# Altium footprint library BM1397_TESTBED.PcbLib: 24 footprints (part 2 of 2)
Each footprint in its own frame and in the unit in brackets; x right, y up, seen from the top. Pads: shape width x height; smd on the part's side, far side on the other; paste and mask are expansions set on the pad; w line width, h text height; cw(c..) or ccw(c..) is an arc to the next point about the centre after c.
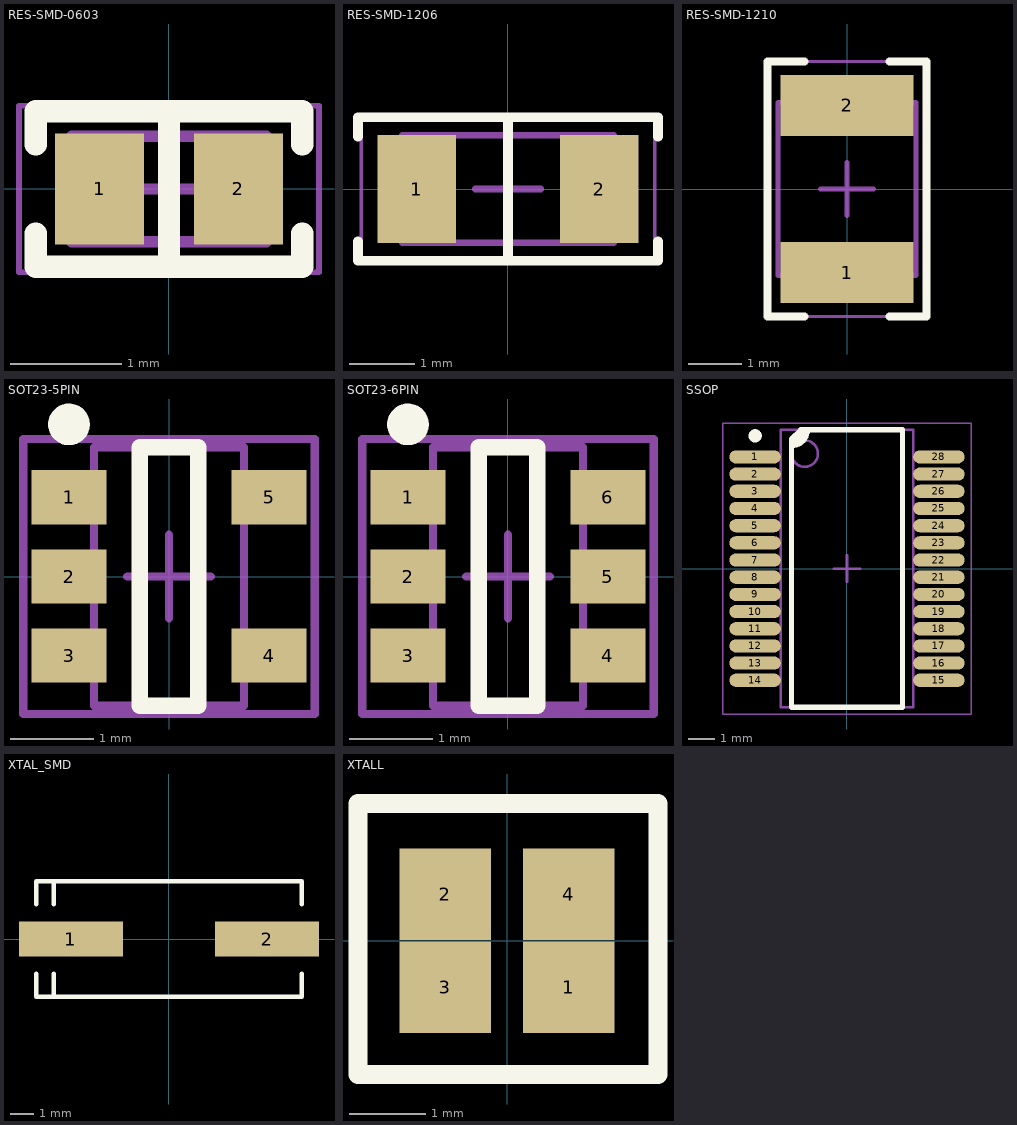
[diagram p1: the footprints below, top view; thin cyan lines are the x and y axes]

## RES-SMD-0603 [mm]
pads (2):
  rect 0.8x1 smd: 1(-0.625,0) 2(0.625,0)
Top Overlay:
  lines w0.2: -1.2,-0.4 -1.2,-0.7 1.2,-0.7 1.2,-0.4 ; -1.2,0.4 -1.2,0.7 1.2,0.7 1.2,0.4 ; 0,-0.7 0,0.7
Mechanical 13:
  lines w0.1: -0.875,-0.475 0.875,-0.475 0.875,0.475 -0.875,0.475 -0.875,-0.475
Mechanical 15:
  lines w0.05: -1.35,-0.75 1.35,-0.75 1.35,0.75 -1.35,0.75 -1.35,-0.75
  lines w0.1: -0.475,0 0.475,0 ; 0,-0.475 0,0.475
3D body "NTC 0603.STEP": height 0.82, standoff 0, extent -0.8,-0.412 0.8,0.412

## RES-SMD-1206 [mm]
pads (2):
  rect 1.2x1.65 smd: 1(-1.4,0) 2(1.4,0)
Top Overlay:
  lines w0.15: -2.3,-0.8 -2.3,-1.1 2.3,-1.1 2.3,-0.8 ; -2.3,0.8 -2.3,1.1 2.3,1.1 2.3,0.8 ; 0,-1.1 0,1.1
Mechanical 13:
  lines w0.1: -1.625,-0.825 -1.625,0.825 1.625,0.825 1.625,-0.825 -1.625,-0.825
Mechanical 15:
  lines w0.05: -2.25,-1.1 -2.25,1.1 2.25,1.1 2.25,-1.1 -2.25,-1.1
  lines w0.1: -0.5,0 0.5,0 ; 0,-0.5 0,0.5
3D body "1206 resistor.STEP": height 0.6, standoff 0, extent -1.575,-0.8 1.625,0.8

## RES-SMD-1210 [mm]
pads (2):
  rect 2.5x1.15 smd: 1(0,-1.575) 2(0,1.575)
Top Overlay:
  lines w0.15: -0.8,-2.4 -1.5,-2.4 -1.5,2.4 -0.8,2.4 ; 0.8,-2.4 1.5,-2.4 1.5,2.4 0.8,2.4
Mechanical 13:
  lines w0.1: -1.3,-1.625 -1.3,1.625 1.3,1.625 1.3,-1.625 -1.3,-1.625
Mechanical 15:
  lines w0.05: -1.5,-2.4 -1.5,2.4 1.5,2.4 1.5,-2.4 -1.5,-2.4
  lines w0.1: -0.5,0 0.5,0 ; 0,-0.5 0,0.5
3D body "RES - 1210.step": height 0.7, standoff 0, extent -1.25,-1.6 1.25,1.6

## SOT23-5PIN [mm]
pads (5):
  rect 0.9x0.65 smd: 1(-1.2,0.95) 2(-1.2,0) 3(-1.2,-0.95) 4(1.2,-0.95) 5(1.2,0.95)
Top Overlay:
  circle w0.25: c-1.2,1.825 r0.125
  lines w0.2: -0.35,-1.55 -0.35,1.55 0.35,1.55 0.35,-1.55 -0.35,-1.55
Mechanical 13:
  lines w0.1: -0.9,-1.55 0.9,-1.55 0.9,1.55 -0.9,1.55 -0.9,-1.55
Mechanical 15:
  lines w0.1: -0.5,0 0.5,0 ; 0,-0.5 0,0.5 ; -1.75,-1.65 1.75,-1.65 1.75,1.65 -1.75,1.65 -1.75,-1.65
3D body: height 1.45, standoff 0, extent -0.9,-1.55 0.9,1.55

## SOT23-6PIN [mm]
pads (6):
  rect 0.9x0.65 smd: 1(-1.2,0.95) 2(-1.2,0) 3(-1.2,-0.95) 4(1.2,-0.95) 5(1.2,0) 6(1.2,0.95)
Top Overlay:
  circle w0.25: c-1.2,1.825 r0.125
  lines w0.2: -0.35,-1.55 0.35,-1.55 0.35,1.55 -0.35,1.55 -0.35,-1.55
Mechanical 13:
  lines w0.1: -0.9,-1.55 -0.9,1.55 0.9,1.55 0.9,-1.55 -0.9,-1.55
Mechanical 15:
  lines w0.1: -0.5,0 0.5,0 ; 0,-0.5 0,0.5 ; -1.75,-1.65 -1.75,1.65 1.75,1.65 1.75,-1.65 -1.75,-1.65
3D body: height 1.45, standoff 0, extent -0.9,-1.55 0.9,1.55

## SSOP [mm]
pads (28):
  oval 1.95x0.5 smd: 1(-3.475,4.225) 2(-3.475,3.575) 3(-3.475,2.925) 4(-3.475,2.275) 5(-3.475,1.625) 6(-3.475,0.975) 7(-3.475,0.325) 8(-3.475,-0.325) 9(-3.475,-0.975) 10(-3.475,-1.625) 11(-3.475,-2.275) 12(-3.475,-2.925) 13(-3.475,-3.575) 14(-3.475,-4.225) 15(3.475,-4.225) 16(3.475,-3.575) 17(3.475,-2.925) 18(3.475,-2.275) 19(3.475,-1.625) 20(3.475,-0.975) 21(3.475,-0.325) 22(3.475,0.325) 23(3.475,0.975) 24(3.475,1.625) 25(3.475,2.275) 26(3.475,2.925) 27(3.475,3.575) 28(3.475,4.225)
Top Overlay:
  circle w0.25: c-3.475,5.025 r0.125
  region: -2.1,4.65 -1.981,4.65 -1.76,4.741 -1.591,4.91 -1.5,5.131 -1.5,5.25 -1.8,5.25 -2.1,4.95
  lines w0.2: -2.1,4.65 ccw(c-2.1,5.25) -1.5,5.25 ; -2.1,-5.25 -2.1,4.9 -1.75,5.25 2.1,5.25 2.1,-5.25 -2.1,-5.25
Mechanical 13:
  circle w0.1: c-1.6,4.35 r0.5
  lines w0.1: -2.5,-5.25 -2.5,5.25 2.5,5.25 2.5,-5.25 -2.5,-5.25
Mechanical 15:
  lines w0.05: -4.7,-5.5 -4.7,5.5 4.7,5.5 4.7,-5.5 -4.7,-5.5
  lines w0.1: -0.5,0 0.5,0 ; 0,-0.5 0,0.5
3D body "SSOP-28-TI-DB.STEP": height 1.97, standoff 0, extent -3.91,-5.1 3.911,5.1

## XTAL_SMD [mm]
pads (2):
  rect 4.5x1.5 smd: 1(-4.25,0) 2(4.25,0)
Top Overlay:
  lines w0.2: -5.75,-1.5 -5.75,-2.5 5.75,-2.5 5.75,-1.5 ; -5.75,1.5 -5.75,2.5 5.75,2.5 5.75,1.5 ; -5,-2.5 -5,-1.5 ; -5,1.5 -5,2.5
3D body "User Library-HC49_SMD.STEP": height 5.18, standoff 0, extent -6.209,-2.25 6.091,2.25

## XTALL [mm]
pads (4):
  rect 1.2x1.2 smd: 1(0.813,-0.612) 2(-0.813,0.613) 3(-0.813,-0.612) 4(0.813,0.613)
Top Overlay:
  lines w0.254: -1.956,-1.755 -1.956,1.801 1.981,1.801 1.981,-1.755 -1.956,-1.755
3D body "ABM8.stp": height 0.87, standoff 0.07, extent -1.595,-1.27 1.605,1.23